# Altium schematic symbol library AD8417WBRZ.Schlib: 1 symbol
Pins are listed as number, name and electrical type; pins without a type are passive.

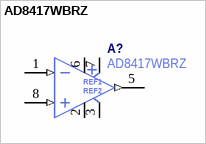
[diagram p0: symbol AD8417WBRZ]

## AD8417WBRZ
designator A?
Manufacturer Part Number: AD8417WBRZ
pins: 1 IN-2 (in), 2 GND (power), 3 VDD (power), 5 OUT (out), 6 VS (power), 7 VREF1 (power), 8 IN+ (in)
text: REF1; REF2